# Altium schematic symbol library Schlib Arduino.SchLib: 5 symbols
Pins are listed as number, name and electrical type; pins without a type are passive.

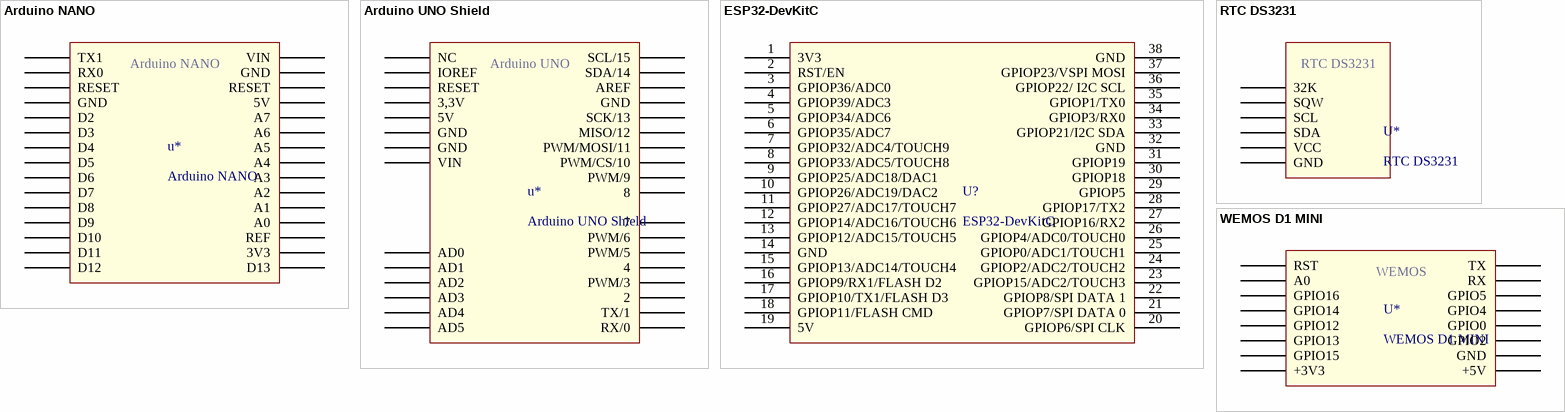
[diagram p0: symbols Arduino NANO to WEMOS D1 MINI]

## Arduino NANO
designator u*
footprint Arduino NANO Shield (Arduino Nano footprint)
pins: 1 TX1, 2 RX0, 3 RESET, 4 GND, 5 D2, 6 D3, 7 D4, 8 D5, 9 D6, 10 D7, 11 D8, 12 D9, 13 D10, 14 D11, 15 D12, 16 D13, 17 3V3, 18 REF, 19 A0, 20 A1, 21 A2, 22 A3, 23 A4, 24 A5, 25 A6, 26 A7, 27 5V, 28 RESET, 29 GND, 30 VIN

## Arduino UNO Shield
designator u*
footprint Arduino UNO Shield (Arduino UNO Shield Footprint)
pins: P1.1 NC, P1.2 IOREF, P1.3 RESET, P1.4 3,3V, P1.5 5V, P1.6 GND, P1.7 GND, P1.8 VIN, P2.1 AD0, P2.2 AD1, P2.3 AD2, P2.4 AD3, P2.5 AD4, P2.6 AD5, P3.1 RX/0, P3.2 TX/1, P3.3 2, P3.4 PWM/3, P3.5 4, P3.6 PWM/5, P3.7 PWM/6, P3.8 7, P4.1 8, P4.2 PWM/9, P4.3 PWM/CS/10, P4.4 PWM/MOSI/11, P4.5 MISO/12, P4.6 SCK/13, P4.7 GND, P4.8 AREF, P4.9 SDA/14, P4.10 SCL/15
text: Arduino UNO

## ESP32-DevKitC
designator U?
footprint ESP32-DevKitC
pins: 1 3V3, 2 RST/EN, 3 GPIOP36/ADC0, 4 GPIOP39/ADC3, 5 GPIOP34/ADC6, 6 GPIOP35/ADC7, 7 GPIOP32/ADC4/TOUCH9, 8 GPIOP33/ADC5/TOUCH8, 9 GPIOP25/ADC18/DAC1, 10 GPIOP26/ADC19/DAC2, 11 GPIOP27/ADC17/TOUCH7, 12 GPIOP14/ADC16/TOUCH6, 13 GPIOP12/ADC15/TOUCH5, 14 GND, 15 GPIOP13/ADC14/TOUCH4, 16 GPIOP9/RX1/FLASH D2, 17 GPIOP10/TX1/FLASH D3, 18 GPIOP11/FLASH CMD, 19 5V, 20 GPIOP6/SPI CLK, 21 GPIOP7/SPI DATA 0, 22 GPIOP8/SPI DATA 1, 23 GPIOP15/ADC2/TOUCH3, 24 GPIOP2/ADC2/TOUCH2, 25 GPIOP0/ADC1/TOUCH1, 26 GPIOP4/ADC0/TOUCH0, 27 GPIOP16/RX2, 28 GPIOP17/TX2, 29 GPIOP5, 30 GPIOP18, 31 GPIOP19, 32 GND, 33 GPIOP21/I2C SDA, 34 GPIOP3/RX0, 35 GPIOP1/TX0, 36 GPIOP22/ I2C SCL, 37 GPIOP23/VSPI MOSI, 38 GND

## RTC DS3231
designator U*
footprint RTC DS3231
pins: 1 32K, 2 SQW, 3 SCL, 4 SDA, 5 VCC, 6 GND

## WEMOS D1 MINI
designator U*
footprint WEMOS D1 MINI
pins: 1 RST, 2 A0, 3 GPIO16, 4 GPIO14, 5 GPIO12, 6 GPIO13, 7 GPIO15, 8 +3V3, 9 +5V, 10 GND, 11 GPIO2, 12 GPIO0, 13 GPIO4, 14 GPIO5, 15 RX, 16 TX
text: WEMOS